# Altium footprint library encoder.PcbLib: 13 footprints
Each footprint in its own frame and in the unit in brackets; x right, y up, seen from the top. Pads: shape width x height; smd on the part's side, far side on the other; paste and mask are expansions set on the pad; w line width, h text height; cw(c..) or ccw(c..) is an arc to the next point about the centre after c.
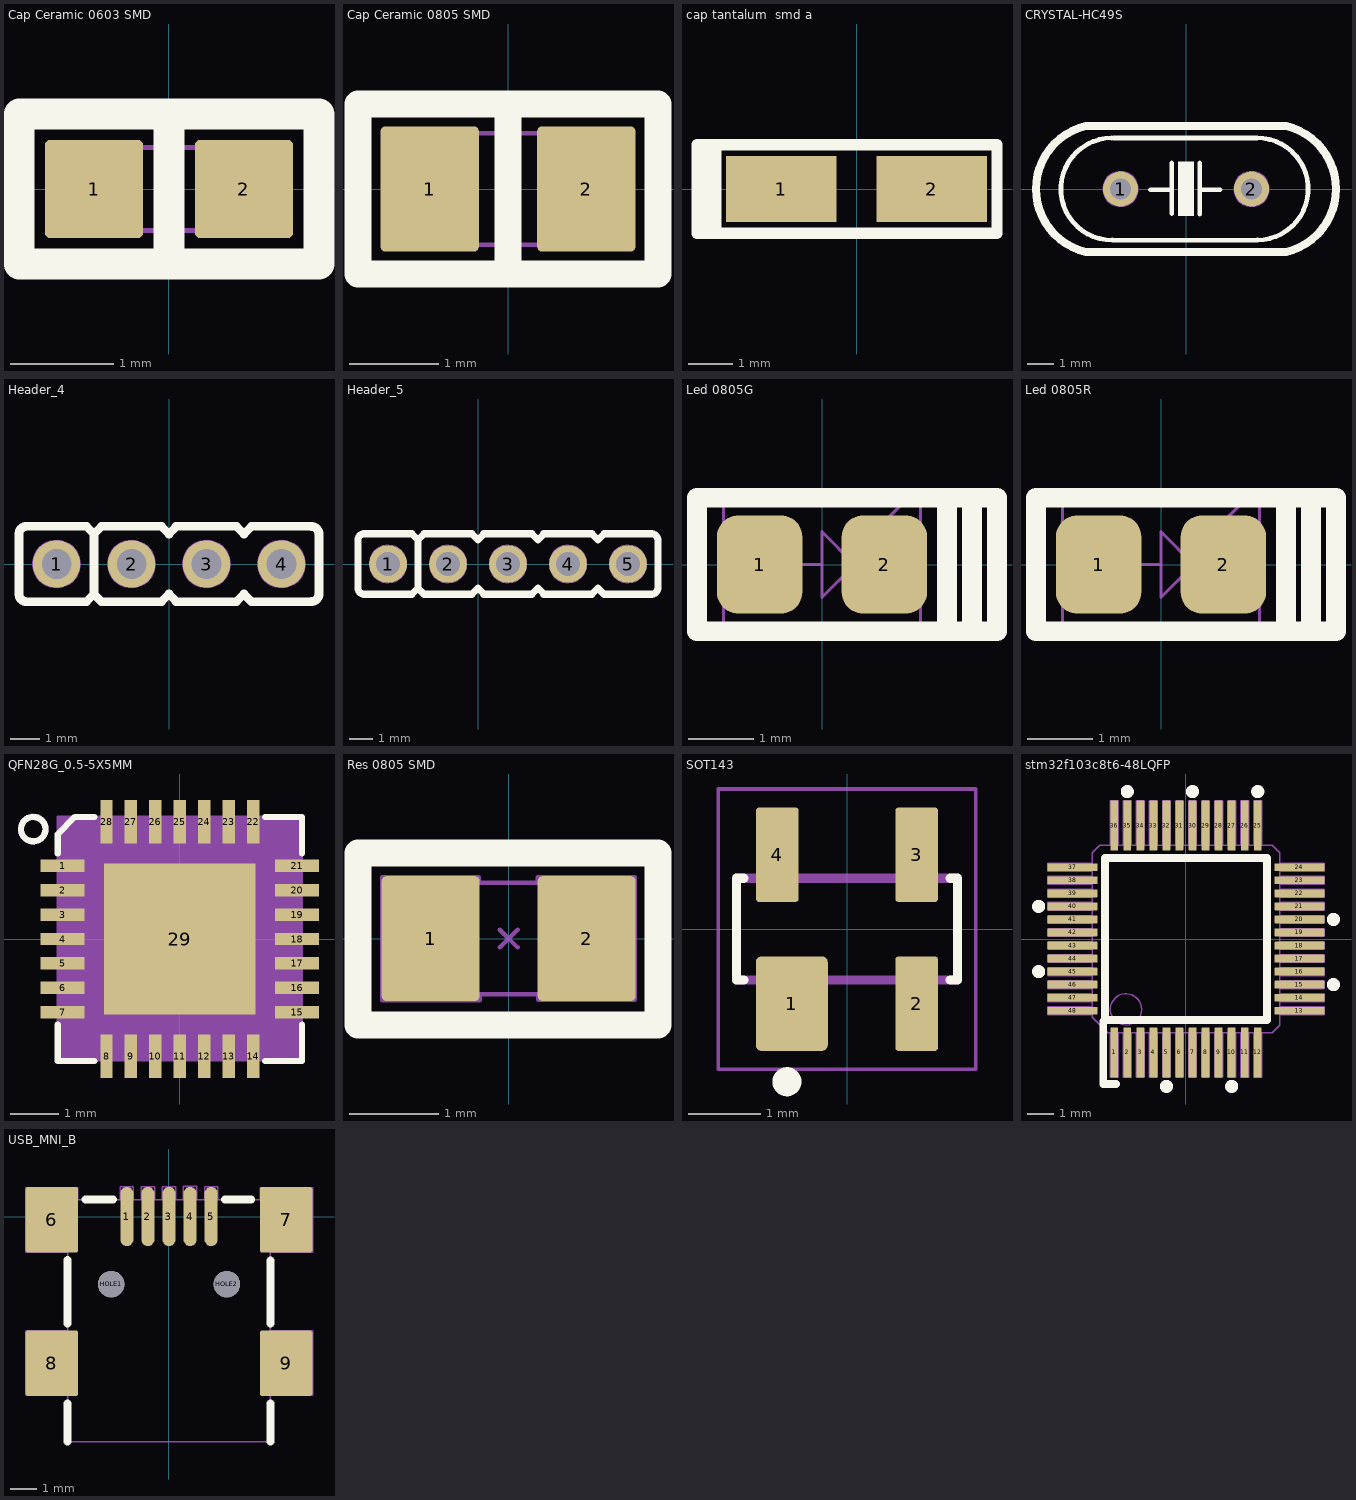
[diagram p0: the footprints below, top view; thin cyan lines are the x and y axes]

## Cap Ceramic 0603 SMD [mm] "Reflow Soldering"
pads (2):
  rrect10% 0.95x0.95 smd mask+0.1: 1(-0.725,0) 2(0.725,0)
Top Overlay:
  lines w0.3: -1.45,0.725 -1.45,-0.725 1.435,-0.725 ; -1.435,0.725 1.435,0.725 ; 0,-0.725 0,0.725 ; 1.45,-0.725 1.45,0.725
Mechanical 2:
  lines w0.05: -0.1,-0.1 0.1,0.1 ; -0.1,0.1 0.1,-0.1 ; -0.8,-0.4 0.8,-0.4 0.8,0.4 -0.8,0.4 -0.8,-0.4
3D body "User Library-SMD CAPACITOR0603.STEP": height 0.85, standoff 0.05, extent -0.8,-0.4 0.8,0.4

## Cap Ceramic 0805 SMD [mm] "Reflow Soldering"
pads (2):
  rrect10% 1.1x1.4 smd mask+0.1: 1(-0.875,0) 2(0.875,0)
Top Overlay:
  lines w0.3: 0,-0.95 0,0.95 ; -1.675,-0.95 1.675,-0.95 1.675,0.95 -1.675,0.95 -1.675,-0.95
Mechanical 2:
  lines w0.05: -0.1,-0.1 0.1,0.1 ; -0.1,0.1 0.1,-0.1 ; -1,-0.625 -1,0.625 1,0.625 1,-0.625 -1,-0.625
3D body "User Library-SMD CAPACITOR0805.STEP": height 0.65, standoff 0.05, extent -1,-0.625 1,0.625

## cap tantalum  smd a [mm]
pads (2):
  rect 2.5x1.5 smd: 1(-1.7,0) 2(1.7,0)
Top Overlay:
  lines w0.254: -3.607,-1 -3.607,1 ; -3.556,-1 3.175,-1 3.175,1 -3.556,1 ; -3.378,-1 -3.378,1 ; -3.175,-1 -3.175,1
3D body "CAP_TANT_3216-18.step": height 1.69, standoff -0.01, extent -1.7,-0.9 1.7,0.9

## CRYSTAL-HC49S [mm]
pads (2):
  round 1.3 hole 0.8 mask+0.1: 1(-2.44,0) 2(2.44,0)
Top Overlay:
  region: 0.292,1.016 0.292,-0.991 -0.292,-0.991 -0.292,1.016
  lines w0.178: -2.769,1.905 ccw(c-2.756,0) -2.75,-1.905 ; -2.717,-1.905 2.617,-1.905 ; -2.692,1.905 2.642,1.905 ; -1.321,-0.025 -0.533,-0.025 ; -0.533,-0.914 -0.533,0.965 ; 0.508,-0.94 0.508,0.965 ; 0.508,-0.025 1.27,-0.025 ; 2.642,1.905 cw(c2.647,0) 2.66,-1.905
  lines w0.3: -3.733,-2.35 3.733,-2.35 ; -3.733,-2.348 cw(c-3.175,0) -3.733,2.348 ; -3.733,2.35 3.733,2.35 ; 3.733,-2.348 ccw(c3.175,0) 3.733,2.348
Mechanical 2:
  circle w0.05: c2.44,0 r0.65
  circle w0.05: c-2.44,0 r0.65
  lines w0.05: -3.733,-2.35 3.733,-2.35 ; -3.733,-2.348 cw(c-3.175,0) -3.733,2.348 ; -3.733,2.35 3.733,2.35 ; 3.733,-2.348 ccw(c3.175,0) 3.733,2.348
3D body "User Library-HC49S-1.STEP": height 3.6, standoff -3, extent -5.49,-2.246 5.49,2.246

## Header_4 [mm] "Connector DIP, 4Pin_2.54mm"
height 5
pads (4):
  round 1.6 hole 1 mask+0.1: 1(-3.81,0) 2(-1.27,0) 3(1.27,0) 4(3.81,0)
Top Overlay:
  lines w0.3: -2.794,-1.28 -2.794,-1.27 ; -2.794,1.27 -2.54,1.016 ; -2.794,1.28 -4.84,1.28 ccw(c-4.82,1.02) -5.08,1 -5.08,-1 ccw(c-4.82,-1.02) -4.84,-1.28 -2.804,-1.28 -2.794,-1.27 ; -2.286,1.27 -2.54,1.016 ; -2.286,1.28 -0.254,1.28 -0.254,1.27 0,1.016 0.254,1.27 ; 0.24,-1.28 2.276,-1.28 2.286,-1.27 ; 0.24,1.28 2.286,1.28 ; 0.254,-1.27 0,-1.016 -0.254,-1.27 -0.254,-1.28 -2.286,-1.28 -2.54,-1.026 ; 2.286,-1.28 2.286,-1.27 ; 2.286,1.27 2.54,1.016 2.794,1.27 ; 2.794,1.28 4.826,1.28 4.826,1.27 ; 4.8,-1.28 ccw(c4.8,-1) 5.08,-1 5.08,1 ccw(c4.8,1) 4.8,1.28 ; 4.826,-1.27 4.826,-1.28 2.794,-1.28 2.54,-1.026 2.54,-1.016 2.286,-1.27 ; -2.794,-1.27 -2.54,-1.016 -2.54,-1.026 ; -2.54,-1.026 -2.54,1.016
Mechanical 2:
  circle w0.05: c-3.81,0 r0.8
  circle w0.05: c-3.81,0 r0.8
  circle w0.05: c1.27,0 r0.8
  circle w0.05: c3.81,0 r0.8
  circle w0.05: c-1.27,0 r0.8
  lines w0.05: -2.794,-1.28 -2.794,-1.27 ; -2.794,1.27 -2.54,1.016 ; -2.794,1.28 -4.84,1.28 ccw(c-4.82,1.02) -5.08,1 -5.08,-1 ccw(c-4.82,-1.02) -4.84,-1.28 -2.804,-1.28 -2.794,-1.27 ; -2.286,1.27 -2.54,1.016 ; -2.286,1.28 -0.254,1.28 -0.254,1.27 0,1.016 0.254,1.27 ; 0.24,-1.28 2.276,-1.28 2.286,-1.27 ; 0.24,1.28 2.286,1.28 ; 0.254,-1.27 0,-1.016 -0.254,-1.27 -0.254,-1.28 -2.286,-1.28 -2.54,-1.026 -2.54,-1.016 ; 2.286,-1.28 2.286,-1.27 ; 2.286,1.27 2.54,1.016 2.794,1.27 ; 2.54,-1.026 2.794,-1.28 4.826,-1.28 4.826,-1.27 ; 2.54,-1.016 2.286,-1.27 ; 2.794,1.28 4.826,1.28 4.826,1.27 ; 4.8,-1.28 ccw(c4.8,-1) 5.08,-1 5.08,1 ccw(c4.8,1) 4.8,1.28 ; -2.794,-1.27 -2.54,-1.016 ; -2.54,-1.016 -2.54,1.016
  text "1" at -4.064,-0.254 h1.2
  text "4" at 3.556,-0.254 h1.2
3D body "Header 1x4.STEP": height 10.1, standoff -1.5, extent -5.08,-1.27 5.08,1.27

## Header_5 [mm] "Connector DIP, 4Pin_2.54mm"
height 5
pads (5):
  round 1.6 hole 1 mask+0.1: 1(-3.81,0) 2(-1.27,0) 3(1.27,0) 4(3.81,0) 5(6.35,0)
Top Overlay:
  lines w0.3: -2.794,-1.28 -2.794,-1.27 ; -2.794,1.27 -2.54,1.016 ; -2.794,1.28 -4.84,1.28 ccw(c-4.82,1.02) -5.08,1 -5.08,-1 ccw(c-4.82,-1.02) -4.84,-1.28 -2.804,-1.28 -2.794,-1.27 ; -2.286,1.27 -2.54,1.016 ; -2.286,1.28 -0.254,1.28 -0.254,1.27 0,1.016 0.254,1.27 ; 0.24,-1.28 2.276,-1.28 2.286,-1.27 ; 0.24,1.28 2.286,1.28 ; 0.254,-1.27 0,-1.016 -0.254,-1.27 -0.254,-1.28 -2.286,-1.28 -2.54,-1.026 ; 2.286,-1.28 2.286,-1.27 ; 2.286,1.27 2.54,1.016 2.794,1.27 ; 2.54,-1.026 2.54,-1.016 ; 2.78,-1.28 4.816,-1.28 ; 2.78,1.28 4.826,1.28 ; 2.794,-1.27 2.54,-1.016 ; 4.826,-1.27 5.08,-1.016 ; 4.826,1.27 5.08,1.016 5.334,1.27 ; 5.08,-1.026 5.334,-1.28 7.366,-1.28 ; 5.334,1.28 7.366,1.28 ; 7.34,-1.28 ccw(c7.34,-1) 7.62,-1 7.62,1 ccw(c7.34,1) 7.34,1.28 ; -2.794,-1.27 -2.54,-1.016 -2.54,-1.026 ; -2.54,-1.026 -2.54,1.016 ; 2.286,-1.27 2.54,-1.016
Mechanical 2:
  circle w0.05: c-3.81,0 r0.8
  circle w0.05: c-3.81,0 r0.8
  circle w0.05: c1.27,0 r0.8
  circle w0.05: c3.81,0 r0.8
  circle w0.05: c-1.27,0 r0.8
  circle w0.05: c6.35,0 r0.8
  lines w0.05: -2.794,-1.28 -2.794,-1.27 ; -2.794,1.27 -2.54,1.016 ; -2.794,1.28 -4.84,1.28 ccw(c-4.82,1.02) -5.08,1 -5.08,-1 ccw(c-4.82,-1.02) -4.84,-1.28 -2.804,-1.28 -2.794,-1.27 ; -2.286,1.27 -2.54,1.016 ; -2.286,1.28 -0.254,1.28 -0.254,1.27 0,1.016 0.254,1.27 ; 0.24,-1.28 2.276,-1.28 2.286,-1.27 ; 0.24,1.28 2.286,1.28 ; 0.254,-1.27 0,-1.016 -0.254,-1.27 -0.254,-1.28 -2.286,-1.28 -2.54,-1.026 -2.54,-1.016 ; 2.286,-1.28 2.286,-1.27 ; 2.286,1.27 2.54,1.016 2.794,1.27 ; 2.78,-1.28 4.816,-1.28 ; 2.78,1.28 4.826,1.28 4.826,1.27 5.08,1.016 5.334,1.27 ; 2.794,-1.27 2.54,-1.016 2.286,-1.27 ; 4.826,-1.28 4.826,-1.27 5.08,-1.016 ; 5.08,-1.026 5.334,-1.28 7.366,-1.28 ; 5.334,1.28 7.366,1.28 ; 7.34,-1.28 ccw(c7.34,-1) 7.62,-1 7.62,1 ccw(c7.34,1) 7.34,1.28 ; -2.794,-1.27 -2.54,-1.016 ; -2.54,-1.016 -2.54,1.016
  text "1" at -4.064,-0.254 h1.2
  text "5" at 6.096,-0.381 h1.2
3D body "Pin Header 1x5 TH Pitch 2.54mm.stp": height 9.5, standoff -3.2, extent -5.08,-1.27 7.62,1.27

## Led 0805G [mm] "Chip LED; Green; Body 2.0 x 1.3 mm (LxW typ)"
height 1.1
pads (2):
  rrect50% 1.3x1.5 smd: 1(-0.95,0) 2(0.95,0)
Top Overlay:
  lines w0.3: 1.905,-1.016 1.905,1.016 ; 2.286,-1.016 2.286,1.016 ; -1.905,-1.016 2.667,-1.016 2.667,1.016 -1.905,1.016 -1.905,-1.016
Mechanical 2:
  lines w0.05: -1.5,-1 -1.5,1.032 ; -0.5,0 0,0 ; 0.5,-0.5 0.5,0.5 ; 0.6,0.5 0.8,0.7 0.8,0.5 1.2,0.9 ; 0.75,0.2 0.95,0.4 0.95,0.2 1.35,0.6 ; 1,0 0.5,0 ; 1.5,-1 1.5,1.032 ; 0.5,0 0,0.5 0,-0.5 0.5,0 ; -1.905,-1 1.905,-1 1.905,1.032 -1.905,1.032 -1.905,-1
3D body "User Library-User Library-led_0805 GRE.step": height 1.1, standoff 0, extent -1.035,-0.625 0.985,0.625

## Led 0805R [mm] "Chip LED; RED ; Body 2.0 x 1.3 mm (LxW typ)"
height 1.1
pads (2):
  rrect50% 1.3x1.5 smd: 1(-0.95,0) 2(0.95,0)
Top Overlay:
  lines w0.3: 1.905,-1.016 1.905,1.016 ; 2.286,-1.016 2.286,1.016 ; -1.905,-1.016 -1.905,1.016 2.667,1.016 2.667,-1.016 -1.905,-1.016
Mechanical 2:
  lines w0.05: -1.5,-1 -1.5,1.032 ; -0.5,0 0,0 ; 0.5,-0.5 0.5,0.5 ; 0.6,0.5 0.8,0.7 0.8,0.5 1.2,0.9 ; 0.75,0.2 0.95,0.4 0.95,0.2 1.35,0.6 ; 1,0 0.5,0 ; 1.5,-1 1.5,1.032 ; 0.5,0 0,-0.5 0,0.5 0.5,0 ; -1.905,-1 1.905,-1 1.905,1.032 -1.905,1.032 -1.905,-1
3D body "User Library-User Library-led_0805 R.step": height 1.1, standoff 0, extent -1.01,-0.625 1.01,0.625

## QFN28G_0.5-5X5MM [mm]
pads (29):
  rect 0.9x0.254 smd: 1(-2.4,1.5) 2(-2.4,1) 3(-2.4,0.5) 4(-2.4,0) 5(-2.4,-0.5) 6(-2.4,-1) 7(-2.4,-1.5) 15(2.4,-1.5) 16(2.4,-1) 17(2.4,-0.5) 18(2.4,0) 19(2.4,0.5) 20(2.4,1) 21(2.4,1.5)
  rect 0.254x0.9 smd: 8(-1.5,-2.4) 9(-1,-2.4) 10(-0.5,-2.4) 11(0,-2.4) 12(0.5,-2.4) 13(1,-2.4) 14(1.5,-2.4) 22(1.5,2.4) 23(1,2.4) 24(0.5,2.4) 25(0,2.4) 26(-0.5,2.4) 27(-1,2.4) 28(-1.5,2.4)
  rect 3.1x3.1 smd paste-3: 29(0,0)
Top Overlay:
  circle w0.127: c-3,2.25 r0.25
  lines w0.127: -2.5,-1.75 -2.5,-2.5 -1.75,-2.5 ; -2.5,1.75 -2.5,2.146 -2.146,2.5 -1.75,2.5 ; 1.75,-2.5 2.5,-2.5 2.5,-1.75 ; 1.75,2.5 2.5,2.5 2.5,1.75
Top Paste:
  region: -0.25,0.25 -1.502,0.25 -1.502,1.5 -0.25,1.5
  region: 1.5,0.25 0.25,0.25 0.25,1.5 1.5,1.5
  region: -0.25,-1.503 -1.503,-1.503 -1.503,-0.25 -0.25,-0.25
  region: 1.5,-1.503 0.25,-1.503 0.25,-0.25 1.5,-0.25
Mechanical 2:
  circle w0.05: c-3,2.25 r0.292
  lines w0.05: -2.5,-2.5 -2.5,-2.475 2.5,-2.475 2.5,2.5 2.475,2.5 -2.5,2.5 -2.5,-2.5
Mechanical 15:
  region: 2.5,-2.505 -2.505,-2.505 -2.505,2.5 2.5,2.5
3D body "User Library-QFN28-0_5.STEP": height 1, standoff 0, extent -2.5,-2.5 2.5,2.5

## Res 0805 SMD [mm] "Reflow Soldering"
pads (2):
  rrect10% 1.1x1.4 smd mask+0.1: 1(-0.875,0) 2(0.875,0)
Top Overlay:
  lines w0.3: -1.69,-0.97 -1.69,0.96 1.675,0.96 1.675,-0.97 -1.69,-0.97
Mechanical 2:
  lines w0.05: -0.331,0.642 -0.334,0.642 -0.334,0.687 -1.416,0.687 -1.416,-0.69 -1.413,-0.69 -0.327,-0.69 ; -0.325,-0.69 -0.325,-0.632 ; 0.324,0.632 0.324,0.69 ; 0.327,0.69 1.413,0.69 ; 0.334,-0.642 0.334,-0.687 1.416,-0.687 1.416,0.69 ; -1,-0.625 1,-0.625 1,0.625 -1,0.625 -1,-0.625
Mechanical 15:
  lines w0.05: -0.1,-0.1 0.1,0.1 ; -0.1,0.1 0.1,-0.1 ; -1,-0.625 1,-0.625 1,0.625 -1,0.625 -1,-0.625
3D body "User Library-SMD RESISTOR-10805.STEP": height 0.62, standoff 0.02, extent -1,-0.625 1,0.625

## SOT143 [mm]
pads (4):
  rrect15% 0.99x1.3 smd: 1(-0.76,-1.025)
  rrect15% 0.59x1.3 smd: 2(0.96,-1.025) 3(0.96,1.025) 4(-0.96,1.025)
Top Overlay:
  circle w0.2: c-0.827,-2.1 r0.1
  lines w0.127: -1.42,-0.7 -1.52,-0.7 -1.52,0.7 -1.42,0.7 ; 1.42,-0.7 1.52,-0.7 1.52,0.7 1.42,0.7
Mechanical 13:
  lines w0.127: -1.52,-0.7 -1.52,0.7 1.52,0.7 1.52,-0.7 -1.52,-0.7
Mechanical 15:
  lines w0.05: -1.77,-1.93 -1.77,1.93 1.77,1.93 1.77,-1.93 -1.77,-1.93
3D body "User Library-sot143.step": height 1, standoff 0, extent -1.46,-1.21 1.46,1.21

## stm32f103c8t6-48LQFP [mm] "LQFP-48"
height 1.6
pads (48):
  rrect10% 0.3x1.9 smd mask+0.05: 1(-2.75,-4.35) 2(-2.25,-4.35) 3(-1.75,-4.35) 4(-1.25,-4.35) 5(-0.75,-4.35) 6(-0.25,-4.35) 7(0.25,-4.35) 8(0.75,-4.35) 9(1.25,-4.35) 10(1.75,-4.35) 11(2.25,-4.35) 12(2.75,-4.35) 25(2.75,4.35) 26(2.25,4.35) 27(1.75,4.35) 28(1.25,4.35) 29(0.75,4.35) 30(0.25,4.35) 31(-0.25,4.35) 32(-0.75,4.35) 33(-1.25,4.35) 34(-1.75,4.35) 35(-2.25,4.35) 36(-2.75,4.35)
  rrect10% 1.9x0.3 smd mask+0.05: 13(4.35,-2.75) 14(4.35,-2.25) 15(4.35,-1.75) 16(4.35,-1.25) 17(4.35,-0.75) 18(4.35,-0.25) 19(4.35,0.25) 20(4.35,0.75) 21(4.35,1.25) 22(4.35,1.75) 23(4.35,2.25) 24(4.35,2.75) 37(-4.35,2.75) 38(-4.35,2.25) 39(-4.35,1.75) 40(-4.35,1.25) 41(-4.35,0.75) 42(-4.35,0.25) 43(-4.35,-0.25) 44(-4.35,-0.75) 45(-4.35,-1.25) 46(-4.35,-1.75) 47(-4.35,-2.25) 48(-4.35,-2.75)
Top Overlay:
  circle w0.3: c-0.75,-5.65 r0.1
  circle w0.3: c1.75,-5.65 r0.1
  circle w0.3: c5.65,0.75 r0.1
  circle w0.3: c2.75,5.65 r0.1
  circle w0.3: c0.25,5.65 r0.1
  circle w0.3: c-2.25,5.65 r0.1
  circle w0.3: c-5.65,1.25 r0.1
  circle w0.3: c-5.65,-1.25 r0.1
  circle w0.3: c5.65,-1.75 r0.1
  lines w0.3: -2.68,-5.56 -3.17,-5.56 -3.17,-3.16 -3.11,-3.1 -3.1,-3.1 ; -3.1,-3.1 3.1,-3.1 3.1,3.1 -3.1,3.1 -3.1,-3.1
Mechanical 2:
  drawing of 201 lines, arcs and shapes, not listed
  text "25" at 1.2,2.6 h0.8
  text "24" at 3.4,1.5 h0.8
  text "13" at 3.4,-2.9 h0.8
  text "12" at 1.3,-3.4 h0.8
  text "36" at -2.9,2.6 h0.8
  text "37" at -2.6,1.5 h0.8
  text "48" at -2.7,-2.5 h0.8
3D body "PT0048A.stp": height 1.56, standoff 0.06, extent -4.507,-4.508 4.508,4.508

## USB_MNI_B [mm] "USB_MINI_B 9.2mmX7.75mm"
height 4
pads (11):
  oval 0.5x2.25 smd: 1(-1.6,0) 2(-0.8,0) 3(0,0) 4(0.8,0) 5(1.6,0)
  rrect10% 2x2.5 smd: 6(-4.45,-0.125) 7(4.45,-0.125) 8(-4.45,-5.575) 9(4.45,-5.575)
  round 1 hole 1 mask+0.1: HOLE1(-2.2,-2.57) HOLE2(2.2,-2.57)
Top Overlay:
  lines w0.3: -3.85,-8.555 -3.85,-7.112 ; -3.85,-4.064 -3.85,-1.651 ; -3.175,0.645 -2.134,0.645 ; 2.134,0.645 3.124,0.645 ; 3.85,-8.555 3.85,-7.112 ; 3.85,-4.064 3.85,-1.676
Mechanical 2:
  lines w0.05: -3.85,-6.8 -5.435,-6.8 -5.435,-4.35 -3.85,-4.35 ; -3.85,-1.35 -5.45,-1.35 -5.45,1.1 -3.46,1.1 -3.46,0.645 ; -1.85,0.645 -1.85,1.13 -1.35,1.13 -1.35,0.645 ; -1.05,0.645 -1.05,1.13 -0.55,1.13 -0.55,0.645 ; -0.25,0.645 -0.25,1.13 0.25,1.13 0.25,0.645 ; 0.55,0.66 0.55,1.145 1.05,1.145 1.05,0.66 ; 1.35,0.645 1.35,1.13 1.85,1.13 1.85,0.645 ; 3.475,0.645 3.475,1.1 5.465,1.1 5.465,-1.35 3.85,-1.35 ; 3.85,-6.8 5.465,-6.8 5.465,-4.35 3.85,-4.35 ; -3.85,-8.555 3.85,-8.555 3.85,0.645 -3.85,0.645 -3.85,-8.555
  text "5" at 1.27,-2.54 h1.2
  text "1" at -1.778,-2.54 h1.2
3D body "User Library-USB_mini_B.step": height 3.95, standoff -1, extent -5.35,-8.517 5.35,0.683